# EAGLE library part DEUTSCH_DT06-12SA (library DEUTSCH)
Gegenstecker zu 501605 Steckergehäuse (Buchse) DT06-12SA / Deutsch
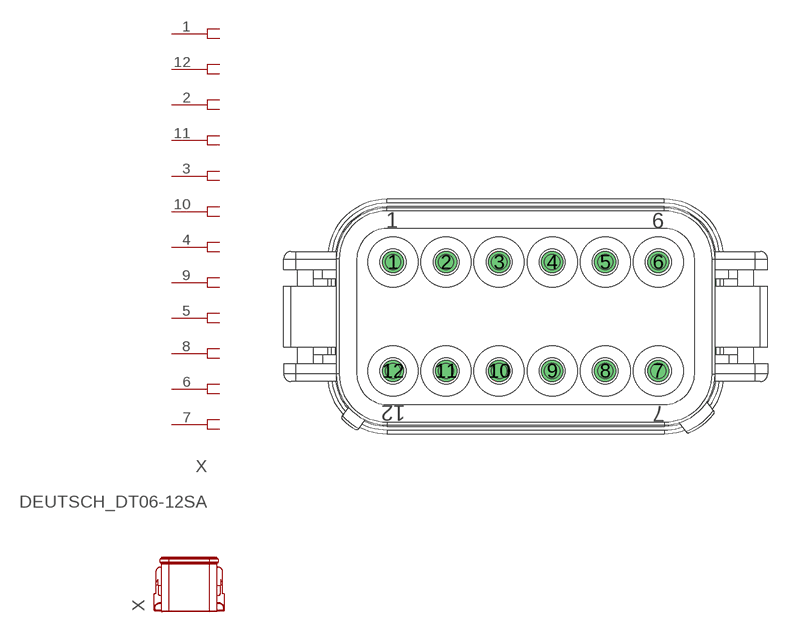
[diagram p0: symbol with the pads of DEUTSCH_DT06-12SA; footprint DEUTSCH_DT06-12SA]

Designator prefix X; gates G$1=DEUTSCH_DT06-12SA G$2=DEUTSCH_DT06-12SA_TOP

## DEUTSCH_DT06-12SA (ARTIKEL_NR: 486268; KASTL_NR: ETZXXX912332; VALUE: DT06-12SA)  [DEUTSCH_DT06-12SA]
1  G$1:1  pas
2  G$1:2  pas
3  G$1:3  pas
4  G$1:4  pas
5  G$1:5  pas
6  G$1:6  pas
7  G$1:7  pas
8  G$1:8  pas
9  G$1:9  pas
10  G$1:10  pas
11  G$1:11  pas
12  G$1:12  pas

## Footprint DEUTSCH_DT06-12SA (pad centres in mm)
umbenannte Kopie von DEUTSCH_DT06-12SA.pac
drill 1.2 pad 1.5: 1 -11.113,4.559; 2 -6.668,4.559; 3 -2.223,4.559; 4 2.222,4.559; 5 6.667,4.559; 6 11.112,4.559; 7 11.112,-4.559; 8 6.667,-4.559; 9 2.222,-4.559; 10 -2.223,-4.559; 11 -6.668,-4.559; 12 -11.113,-4.559